# EAGLE library part AB0805-T3 (library eigenebib)
Digikey: 535-11930-1-ND
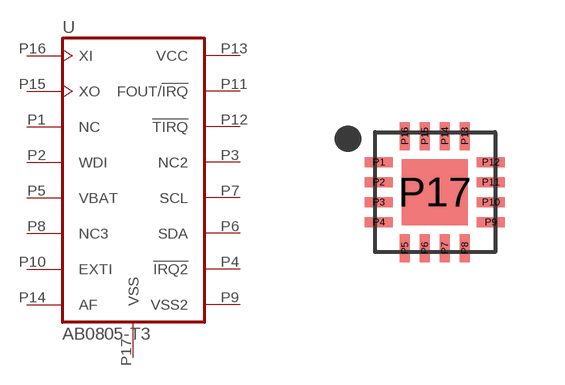
[diagram p2: symbol with the pads of 16-VFQFN; footprint 16-VFQFN]

Designator prefix -

## AB0805-T3  [16-VFQFN]
P1  NC  nc
P2  WDI  in
P3  NC2  nc
P4  !IRQ2!
P5  VBAT  pwr
P6  SDA
P7  SCL  in
P8  NC3  nc
P9  VSS2  pwr
P10  EXTI  in
P11  FOUT/!IRQ!  out
P12  !TIRQ!  in
P13  VCC  pwr
P14  AF  out
P15  XO
P16  XI
P17  VSS  pwr

## Footprint 16-VFQFN (pad centres in mm)
smd 0.7 x 0.25: P1 -1.4,0.75; P2 -1.4,0.25; P3 -1.4,-0.25; P4 -1.4,-0.75; P9 1.4,-0.75; P10 1.4,-0.25; P11 1.4,0.25; P12 1.4,0.75
smd 0.25 x 0.7: P5 -0.75,-1.4; P6 -0.25,-1.4; P7 0.25,-1.4; P8 0.75,-1.4; P13 0.75,1.4; P14 0.25,1.4; P15 -0.25,1.4; P16 -0.75,1.4
smd 1.65 x 1.65: P17 0,0